# Altium footprint library SOT143R.PcbLib: 1 footprints
Each footprint in its own frame and in the unit in brackets; x right, y up, seen from the top. Pads: shape width x height; smd on the part's side, far side on the other; paste and mask are expansions set on the pad; w line width, h text height; cw(c..) or ccw(c..) is an arc to the next point about the centre after c.
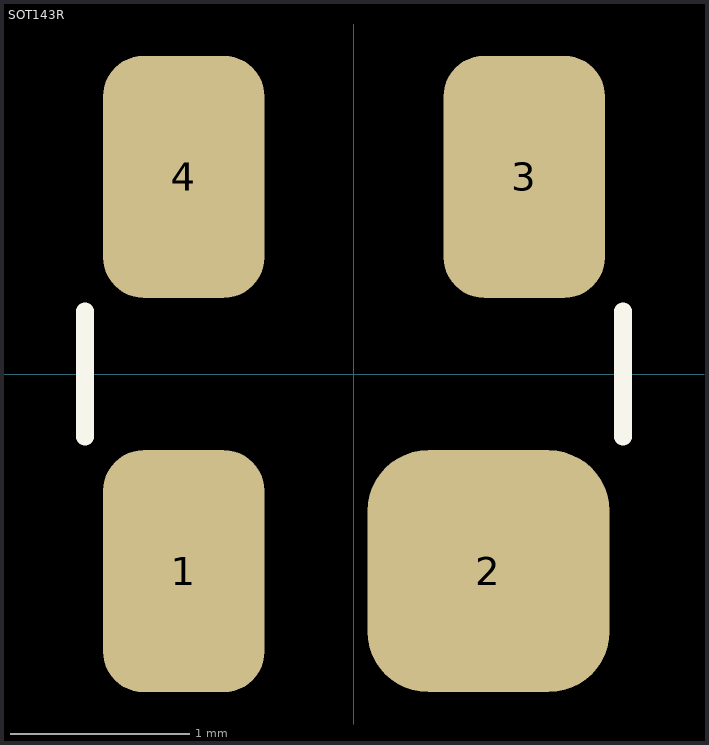
[diagram p0: the footprint, top view; thin cyan lines are the x and y axes]

## SOT143R [mm] "SOT-143; 4 Leads; Body 3 x 2.6 mm, inc. leads (LxW max)"
height 1.1
pads (4):
  rrect50% 0.9x1.35 smd: 1(-0.95,-1.1) 3(0.95,1.1) 4(-0.95,1.1)
  rrect50% 1.35x1.35 smd: 2(0.75,-1.1)
Top Overlay:
  lines w0.1: -1.5,-0.35 -1.5,0.35 ; 1.5,-0.35 1.5,0.35
3D body "SOT143R.STEP": height 1, standoff 0, extent -1.46,-1.21 1.46,1.21